# Altium footprint library WURTH 5040.PCBLIB: 1 footprints
Each footprint in its own frame and in the unit in brackets; x right, y up, seen from the top. Pads: shape width x height; smd on the part's side, far side on the other; paste and mask are expansions set on the pad; w line width, h text height; cw(c..) or ccw(c..) is an arc to the next point about the centre after c.
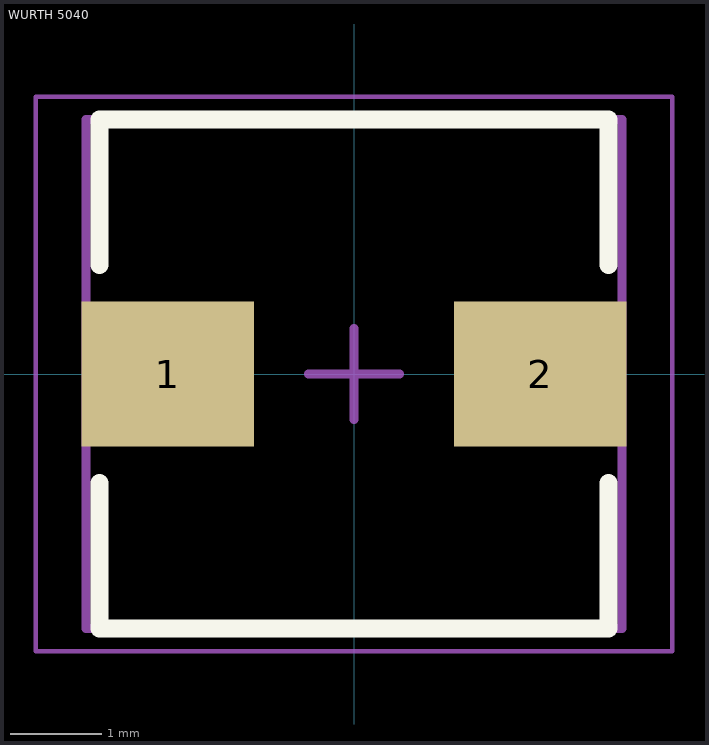
[diagram p0: the footprint, top view; thin cyan lines are the x and y axes]

## WURTH 5040 [mm] "Wire Wound Inductor, 2-Leads, Body 5.60x5.30mm, IPC Medium Density"
height 4.3
pads (2):
  rect 1.9x1.6 smd: 1(-2.05,0) 2(2.05,0)
Top Overlay:
  lines w0.2: -2.8,-1.2 -2.8,-2.8 2.8,-2.8 2.8,-1.2 ; -2.8,1.2 -2.8,2.8 2.8,2.8 2.8,1.2
Mechanical 13:
  lines w0.1: -2.95,-2.8 2.95,-2.8 2.95,2.8 -2.95,2.8 -2.95,-2.8
Mechanical 15:
  lines w0.05: -3.5,-3.05 3.5,-3.05 3.5,3.05 -3.5,3.05 -3.5,-3.05
  lines w0.1: -0.5,0 0.5,0 ; 0,-0.5 0,0.5
3D body "WE-HCI 5040.STEP": height 4, standoff 0, extent -2.79,-2.65 2.79,2.65